# EAGLE library part LTC2641 (library linear_LTC2641)
Dual 16-/14-/12-Bit Rail-to-Rail DACs Source: www.linear.com
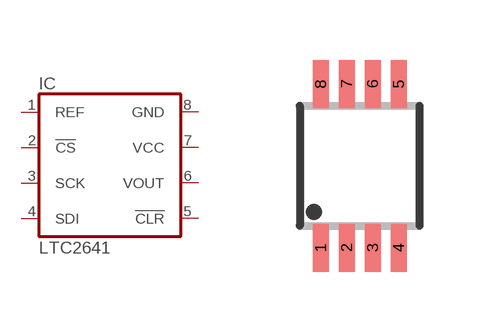
[diagram p0: symbol with the pads of MSOP8; footprint MSOP8]

Designator prefix IC

## LTC2641MS8  [MSOP8]
1  REF  in
2  !CS  in
3  SCK  in
4  SDI  in
5  !CLR  out
6  VOUT  out
7  VCC  pwr
8  GND  pwr

## Footprint MSOP8 (pad centres in mm)
MSOP8
smd 0.4 x 1.2: 1 -0.975,-2.05; 2 -0.325,-2.05; 3 0.325,-2.05; 4 0.975,-2.05; 5 0.975,2.05; 6 0.325,2.05; 7 -0.325,2.05; 8 -0.975,2.05